# Altium footprint library SOT95P280X110-5N.PcbLib: 1 footprints
Each footprint in its own frame and in the unit in brackets; x right, y up, seen from the top. Pads: shape width x height; smd on the part's side, far side on the other; paste and mask are expansions set on the pad; w line width, h text height; cw(c..) or ccw(c..) is an arc to the next point about the centre after c.
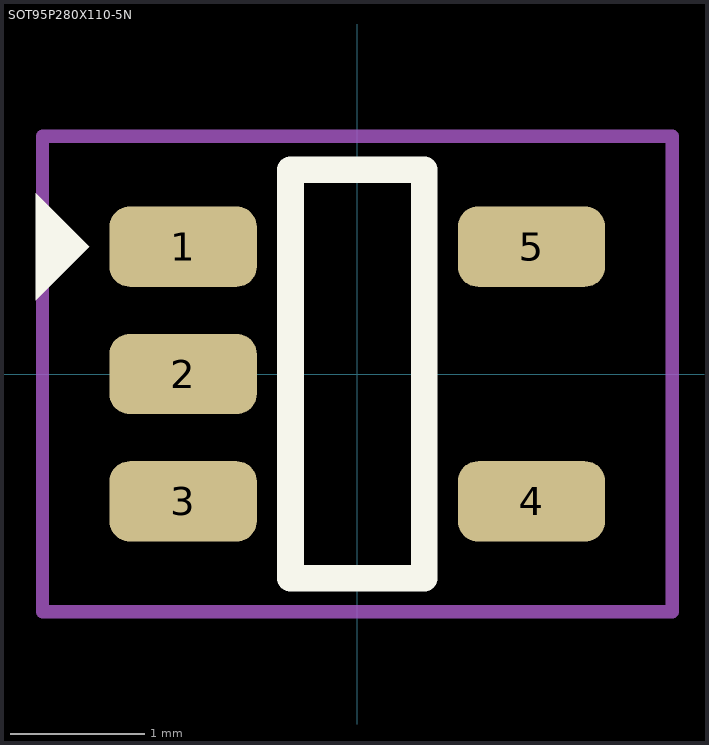
[diagram p0: the footprint, top view; thin cyan lines are the x and y axes]

## SOT95P280X110-5N [mm] "SOT23, 5-Leads, Body 2.90x2.80mm, Pitch 0.95mm, IPC Medium Density"
pads (5):
  rrect50% 1.1x0.6 smd: 1(-1.3,0.95) 2(-1.3,0) 3(-1.3,-0.95) 4(1.3,-0.95) 5(1.3,0.95)
Top Overlay:
  region: -2.4,0.55 -2.4,1.35 -2,0.95
  lines w0.2: -0.5,-1.525 0.5,-1.525 0.5,1.525 -0.5,1.525 -0.5,-1.525
Top Courtyard:
  lines w0.1: -2.35,-1.775 2.35,-1.775 2.35,1.775 -2.35,1.775 -2.35,-1.775
3D body "SOT95P280X110-5N.step": height 1.1, standoff 0, extent -1.5,-1.525 1.5,1.525